# Altium footprint library 8channel.PcbLib: 84 footprints (part 2 of 6)
Each footprint in its own frame and in the unit in brackets; x right, y up, seen from the top. Pads: shape width x height; smd on the part's side, far side on the other; paste and mask are expansions set on the pad; w line width, h text height; cw(c..) or ccw(c..) is an arc to the next point about the centre after c.
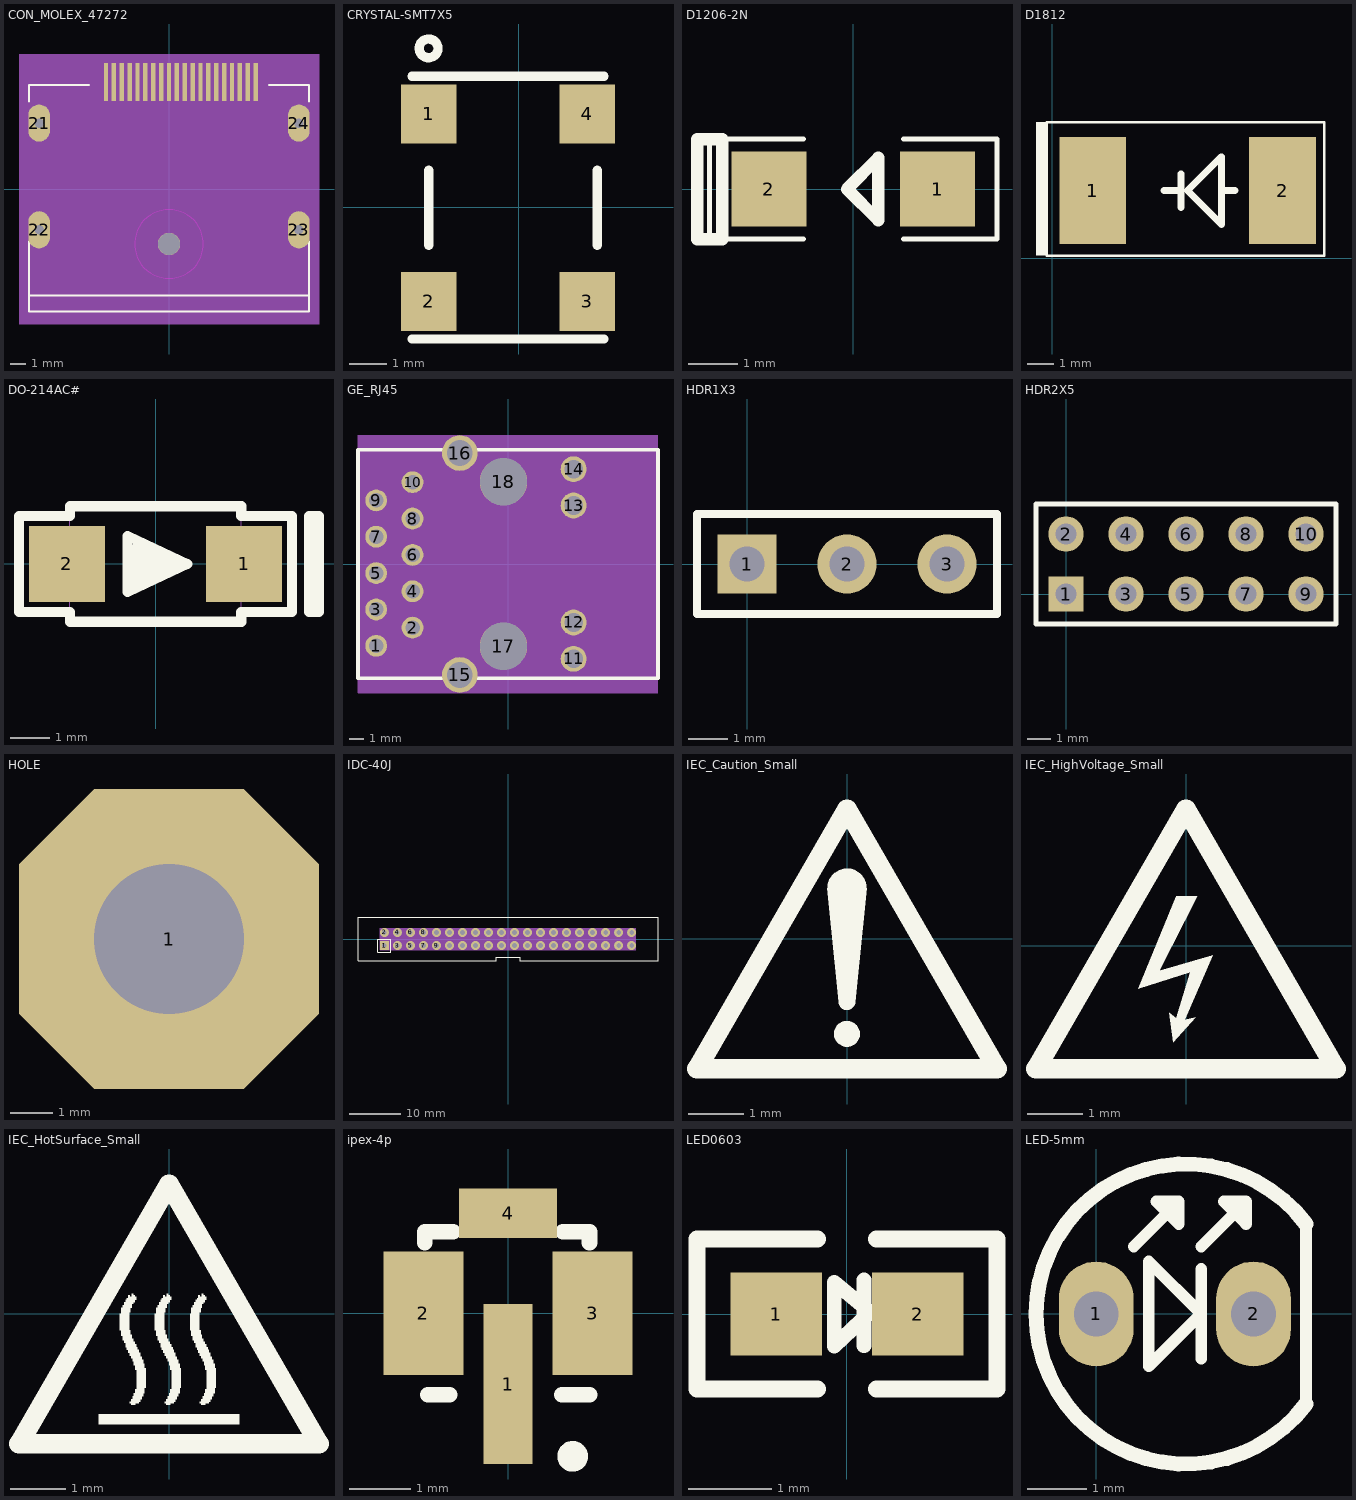
[diagram p1: the footprints below, top view; thin cyan lines are the x and y axes]

## CON_MOLEX_47272 [mil] "CON_MOLEX_47272"
pads (25):
  rect 11x95 smd: 1(216.54,267.22) 2(196.85,267.22) 3(177.16,267.22) 4(157.48,267.22) 5(137.8,267.22) 6(118.11,267.22) 7(98.42,267.22) 8(78.74,267.22) 9(59.06,267.22) 10(39.37,267.22) 11(19.68,267.22) 12(0,267.22) 13(-19.68,267.22) 14(-39.37,267.22) 15(-59.06,267.22) 16(-78.74,267.22) 17(-98.42,267.22) 18(-118.11,267.22) 19(-137.8,267.22) 20(-157.48,267.22)
  oval 54x93 hole 24: 21(-324.8,164.86) 22(-324.8,-102.07) 23(324.8,-102.07) 24(324.8,164.86)
  round 56 hole 56: " "(0,-137.5)
Top Overlay:
  lines w5: -350.2,-266.63 350.2,-266.63 ; -350.2,-131.79 -350.2,-306.79 350.2,-306.79 350.2,-131.79 ; -350.2,218.21 -350.2,259.74 -200,259.74 ; 250,259.74 350.2,259.74 350.2,218.21
Mechanical 10:
  text "16" at -78.74,307.22 h30
  text "8" at 78.74,287.22 h30
  text "11" at 19.68,307.22 h30
  text "2" at 196.85,287.22 h30
  text "5" at 137.8,287.22 h30
  text "21" at -324.8,204.86 h30
  text "22" at -324.8,-62.07 h30
  text "24" at 324.8,204.86 h30
  text "23" at 324.8,-62.07 h30
  text "10" at 39.37,307.22 h30
  text "12" at 0,307.22 h30
  text "7" at 98.42,287.22 h30
  text "9" at 59.06,287.22 h30
  text "1" at 216.54,287.22 h30
  text "3" at 177.16,287.22 h30
  text "4" at 157.48,287.22 h30
  text "6" at 118.11,287.22 h30
  text "17" at -98.42,307.22 h30
  text "15" at -59.06,307.22 h30
  text "14" at -39.37,307.22 h30
  text "13" at -19.68,307.22 h30
  text "19" at -137.8,307.22 h30
  text "20" at -157.48,307.22 h30
  text "18" at -118.11,307.22 h30
Mechanical 12:
  region: -375,337.5 -375,-337.5 375,-337.5 375,337.5
Mechanical 13:
  lines w1: -350.2,-306.79 350.2,-306.79 350.2,259.74 -350.2,259.74 -350.2,-306.79
  text ".Designator" at -170,355 h30
Multi-Layer keep-out:
  lines w1: 0,-223.5 ccw(c0,-137.5) 0,-223.5
3D body: height 150, standoff 0, extent -375,-337.5 375,337.5

## CRYSTAL-SMT7X5 [mm]
pads (4):
  rect 1.5x1.6 smd: 1(-2.438,2.527) 2(-2.438,-2.553) 3(1.862,-2.553) 4(1.862,2.527)
Top Overlay:
  circle w0.25: c-2.438,4.303 r0.254
  lines w0.254: -2.888,-3.569 2.312,-3.569 ; -2.888,3.543 2.312,3.543 ; -2.438,-1.029 -2.438,1.003 ; 2.134,-1.029 2.134,1.003

## D1206-2N [mil]
height 39.37
pads (2):
  rect 60x60 smd: 1(67.5,0) 2(-67.5,0)
Top Overlay:
  lines w4: -40,-40 -115,-40 -115,40 -40,40 ; 40,-40 115,-40 115,40 40,40
  lines w10: -125,-40 -125,40 -105,40 -105,-40 -125,-40 ; -5,0 20,-25 20,25 -5,0

## D1812 [mm] ",Pin1-Negative"
pads (2):
  rect 2.5x4 smd: 1(1.524,2.54) 2(8.636,2.54)
Top Overlay:
  rectangle: -0.6,0.1 -0.2,5.1
  lines w0.102: -0.2,0.1 3.3,0.1 10.2,0.1 10.2,5.1 3.3,5.1 0.1,5.1 -0.2,5.1 -0.2,0.1
  lines w0.254: 4.191,2.54 4.826,2.54 ; 4.826,1.905 4.826,3.175 ; 6.35,2.54 6.858,2.54 ; 5.08,2.54 6.35,3.81 6.35,1.27 5.08,2.54

## DO-214AC# [mil] "Pin1负?"
height 90.16
pads (2):
  rect 75x75 smd: 1(87.5,0) 2(-87.5,0)
Top Overlay:
  lines w10: -18.11,-21.65 -18.11,-4.33 -14.96,-13.78 -5.91,-6.3 15.35,-6.3 -24.02,2.76 20.87,2.76 7.28,10.83 -24.02,10.83 -16.24,18.6 ; -134.84,-47.24 -84.65,-47.24 -84.65,-57.09 84.65,-57.09 84.65,-47.24 134.84,-47.24 134.84,47.24 84.65,47.24 84.65,57.09 -84.65,57.09 -84.65,47.24 -134.84,47.24 -134.84,-47.24 ; -27.56,-27.56 31.5,0 -27.56,27.56 -27.56,-27.56 ; 151.57,-47.24 161.42,-47.24 161.42,47.24 151.57,47.24 151.57,-47.24
Mechanical 16:
  lines w1: -98.43,-29.53 -98.43,29.53 -51.18,29.53 -51.18,-29.53 -98.43,-29.53 ; -84.65,-53.15 -84.65,53.15 84.65,53.15 84.65,-53.15 -84.65,-53.15 ; 51.18,-29.53 51.18,29.53 98.43,29.53 98.43,-29.53 51.18,-29.53
  lines w1.97: 0,3.94 0,0 3.94,0
3D body "DO-214AC.STEP": height 94.49, standoff 0, extent -91.05,-53.08 90.05,53.22

## GE_RJ45 [mil] "GE_RJ45"
pads (18):
  round 60 hole 40: 1(-362.5,-225.01) 2(-262.5,-175.01) 3(-362.5,-125.01) 4(-262.5,-75.01) 5(-362.5,-25.01) 6(-262.5,24.99) 7(-362.5,74.99) 8(-262.5,124.99) 9(-362.5,174.99) 10(-262.5,224.99)
  round 70.87 hole 51.18: 11(180.41,-260.82) 12(180.41,-160.82) 13(180.41,160.82) 14(180.41,260.82)
  round 98 hole 70.87: 15(-132.58,-305.12) 16(-132.58,305.11)
  round 129.92 hole 129.92: 17(-12.5,-225.99) 18(-12.5,225.98)
Top Overlay:
  lines w10: -412.5,-314.01 412.5,-314.01 412.5,313.99 -412.5,313.99 -412.5,-314.01
Mechanical 10:
  text "P1" at -382.5,-225.01 h30
  text "13" at 160.41,160.82 h30
  text "11" at 160.41,-260.83 h30
  text "17" at -32.5,-225.99 h30
  text "18" at -32.5,225.98 h30
  text "14" at 160.41,260.82 h30
  text "16" at -152.58,305.11 h30
  text "P10" at -292.5,224.99 h30
  text "12" at 160.41,-160.83 h30
  text "15" at -152.58,-305.12 h30
  text "P8" at -282.5,124.99 h30
  text "P4" at -282.5,-75.01 h30
  text "P7" at -382.5,74.99 h30
  text "P9" at -382.5,174.99 h30
  text "P2" at -282.5,-175.01 h30
  text "P5" at -382.5,-25.01 h30
  text "P3" at -382.5,-125.01 h30
  text "P6" at -282.5,24.99 h30
Mechanical 12:
  region: 412.5,-354.12 412.5,354.12 -412.5,354.12 -412.5,-354.12
Mechanical 13:
  lines w1: -412.5,-354.12 -412.5,354.12 412.5,354.12 412.5,-354.12 -412.5,-354.12
  text ".Designator" at -36.5,1.01 h30
3D body: height 150, standoff 0, extent -412.5,-354.12 412.5,354.12

## HDR1X3 [mm] "Connector; Header; 3 Position"
pads (3):
  rect 1.5x1.5 hole 0.9: 1(0,0)
  round 1.5 hole 0.9: 2(2.54,0) 3(5.08,0)
Top Overlay:
  lines w0.2: -1.27,-1.27 6.35,-1.27 6.35,1.27 -1.27,1.27 -1.27,-1.27

## HDR2X5 [mm] "Connector; Header; 5x2 Position"
pads (10):
  rect 1.5x1.5 hole 0.9: 1(0,0)
  round 1.5 hole 0.9: 2(0,2.54) 3(2.54,0) 4(2.54,2.54) 5(5.08,0) 6(5.08,2.54) 7(7.62,0) 8(7.62,2.54) 9(10.16,0) 10(10.16,2.54)
Top Overlay:
  lines w0.2: -1.27,-1.27 -1.27,3.81 11.43,3.81 11.43,-1.27 -1.27,-1.27
Mechanical 10:
  text "9" at 4.824,-1.27 h0.76
  text "1" at -5.336,-1.27 h0.76
  text "3" at -2.796,-1.27 h0.76
  text "5" at -0.256,-1.27 h0.76
  text "7" at 2.284,-1.27 h0.76
  text "8" at 2.284,1.27 h0.76
  text "4" at -2.796,1.27 h0.76
  text "6" at -0.256,1.27 h0.76
  text "10" at 4.568,1.27 h0.76
  text "2" at -5.336,1.27 h0.76

## HOLE [mm]
height 5.588
pads (1):
  oct 7x7 hole 3.5: 1(13.817,-50.312)

## IDC-40J [mil] "IDC-40J"
pads (40):
  rect 68x68 hole 35: 1(-950,-50)
  round 68 hole 35: 2(-950,50) 3(-850,-50) 4(-850,50) 5(-750,-50) 6(-750,50) 7(-650,-50) 8(-650,50) 9(-550,-50) 10(-550,50) 11(-450,-50) 12(-450,50) 13(-350,-50) 14(-350,50) 15(-250,-50) 16(-250,50) 17(-150,-50) 18(-150,50) 19(-50,-50) 20(-50,50) 21(50,-50) 22(50,50) 23(150,-50) 24(150,50) 25(250,-50) 26(250,50) 27(350,-50) 28(350,50) 29(450,-50) 30(450,50) 31(550,-50) 32(550,50) 33(650,-50) 34(650,50) 35(750,-50) 36(750,50) 37(850,-50) 38(850,50) 39(950,-50) 40(950,50)
Top Overlay:
  lines w5: -1153.54,-166.54 -91.54,-166.54 -91,-140 90.02,-140 90.55,-166.54 1153.54,-166.54 1153.54,166.54 -1153.54,166.54 -1153.54,-166.54 ; -1000,-100 -1000,0 -900,0 -900,-100 -1000,-100
Mechanical 10:
  text "18" at -130,50 h30
  text "17" at -130,-50 h30
  text "34" at 670,50 h30
  text "33" at 670,-50 h30
  text "31" at 570,-50 h30
  text "16" at -230,50 h30
  text "11" at -430,-50 h30
  text "6" at -740,50 h30
  text "26" at 270,50 h30
  text "12" at -430,50 h30
  text "13" at -330,-50 h30
  text "28" at 370,50 h30
  text "20" at -30,50 h30
  text "5" at -740,-50 h30
  text "35" at 770,-50 h30
  text "29" at 470,-50 h30
  text "23" at 170,-50 h30
  text "36" at 770,50 h30
  text "27" at 370,-50 h30
  text "15" at -230,-50 h30
  text "14" at -330,50 h30
  text "32" at 570,50 h30
  text "19" at -30,-50 h30
  text "7" at -640,-50 h30
  text "25" at 270,-50 h30
  text "10" at -530,50 h30
  text "8" at -640,50 h30
  text "4" at -840,50 h30
  text "22" at 70,50 h30
  text "24" at 170,50 h30
  text "9" at -540,-50 h30
  text "30" at 470,50 h30
  text "3" at -840,-50 h30
  text "21" at 70,-50 h30
  text "2" at -940,50 h30
  text "39" at 970,-50 h30
  text "40" at 970,50 h30
  text "1" at -940,-50 h30
  text "37" at 870,-50 h30
  text "38" at 870,50 h30
Mechanical 12:
  region: -984,-84 984,-84 984,84 -984,84
Mechanical 13:
  lines w1: -984,-84 984,-84 984,84 -984,84 -984,-84
  text ".Designator" at -27,-2 h30
3D body: height 150, standoff 0, extent -984,-84 984,84

## IEC_Caution_Small [mm]
height 5.842
Top Overlay:
  circle w0.254: c0,-1.727 r0.108
  circle w0.356: c0,0.914 r0.178
  circle w0.254: c0,-1.143 r0.025
  region: -0.356,0.914 0.356,0.914 0.152,-1.143 -0.152,-1.143
  lines w0.356: -2.718,-2.362 0,2.345 2.718,-2.362 -2.718,-2.362

## IEC_HighVoltage_Small [mm]
height 5.588
Top Overlay:
  region: -0.178,0.889 0.203,0.889 -0.483,-0.457 0.483,-0.178 -0.025,-1.346 0.178,-1.295 -0.229,-1.753 -0.305,-1.219 -0.178,-1.321 0.076,-0.483 -0.864,-0.787
  lines w0.356: -2.718,-2.235 0,2.472 2.718,-2.235 -2.718,-2.235

## IEC_HotSurface_Small [mm]
height 0.65
Top Overlay:
  drawing of 10 lines, arcs and shapes, not listed

## ipex-4p [mm]
height 1.25
pads (4):
  rect 0.8x2.6 smd: 1(0,-1.15)
  rect 1.3x2 smd: 2(-1.375,0) 3(1.375,0)
  rect 1.6x0.8 smd: 4(0,1.625)
Top Overlay:
  circle w0.25: c1.05,-2.325 r0.125
  lines w0.254: -1.35,1.143 -1.35,1.325 -0.889,1.325 ; -1.3,-1.325 -0.95,-1.325 ; 0.875,-1.325 1.325,-1.325 ; 0.889,1.325 1.325,1.325 1.325,1.143

## LED0603 [mm]
pads (2):
  rect 1.1x1 smd: 1(-0.85,0) 2(0.85,0)
Top Overlay:
  lines w0.178: 0.203,-0.381 0.203,0.406 ; -0.152,-0.383 -0.152,0.379 0.279,0.023 -0.152,-0.383
  lines w0.2: -0.35,-0.9 -1.8,-0.9 -1.8,0.9 -0.35,0.9 ; 0.35,-0.9 1.8,-0.9 1.8,0.9 0.35,0.9

## LED-5mm [mil] "dip,2pin, pitch 2.7mm, diam 5mm"
height 314.96
pads (2):
  oval 50x70 hole 30: 1(0,0) 2(105,0)
Top Overlay:
  lines w7.78: 25,45 55,75 ; 70,-30 70,30 ; 70,45 100,75 ; 140,-60.15 140,60 ; 55,75 55,60 40,75 55,75 ; 100,75 100,60 85,75 100,75 ; 35,-35 35,35 70,0 35,-35
  lines w10: 140,-60.15 cw(c59.9,-0.07) 140,60